# EAGLE library part HARWIN_20JT (library DSDEagleLibrary)
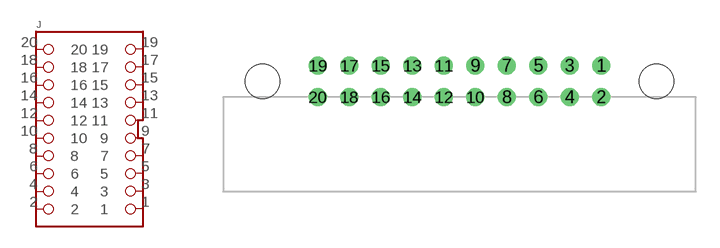
[diagram p42: symbol with the pads of HARWIN_10PIN; footprint HARWIN_10PIN]

Designator prefix J

## HARWIN_20JT  [HARWIN_10PIN]
1  1
2  2
3  3
4  4
5  5
6  6
7  7
8  8
9  9
10  10
11  11
12  12
13  13
14  14
15  15
16  16
17  17
18  18
19  19
20  20

## Footprint HARWIN_10PIN (pad centres in mm)
drill 0.65: 1 9,1; 2 9,-1; 3 7,1; 4 7,-1; 5 5,1; 6 5,-1; 7 3,1; 8 3,-1; 9 1,1; 10 1,-1; 11 -1,1; 12 -1,-1; 13 -3,1; 14 -3,-1; 15 -5,1; 16 -5,-1; 17 -7,1; 18 -7,-1; 19 -9,1; 20 -9,-1
hole 2.2 at -12.5,0
hole 2.2 at 12.5,0